# EAGLE library part LCD (library connectors)
LCD connector Connector for the LCD on glass module Farnell: 5005723 Lieven Hollevoet, 2005
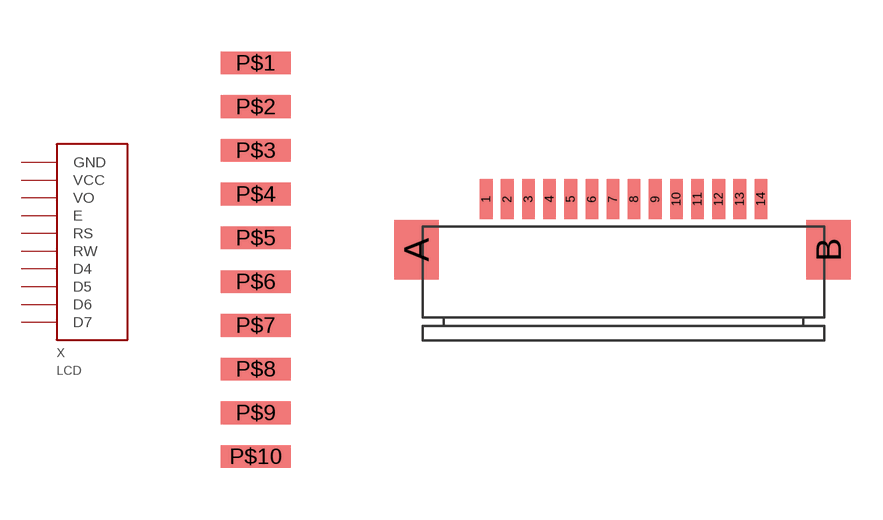
[diagram p2: symbol with the pads of LCDSMD; footprints LCDSMD, MOLEX_LCD]

Designator prefix X

## LCDA  [LCDSMD]
P$1  GND  pwr
P$2  VCC  in
P$3  VO
P$4  E
P$5  RS
P$6  RW
P$7  D4
P$8  D5
P$9  D6
P$10  D7

## LCDMOLEX  [MOLEX_LCD]
1  GND  pwr
2  VO
3  VCC  in
4  RS
5  RW
6  E
11  D4
12  D5
13  D6
14  D7

## Footprint LCDSMD (pad centres in mm)
LCD connector Temporary connector for the LCD module By Lieven Hollevoet, 2005
smd 2.032 x 0.66: P$1 0,6.35; P$2 0,5.08; P$3 0,3.81; P$4 0,2.54; P$5 0,1.27; P$6 0,0; P$7 0,-1.27; P$8 0,-2.54; P$9 0,-3.81; P$10 0,-5.08

## Footprint MOLEX_LCD (pad centres in mm)
smd 0.6 x 1.9: 1 -7,1; 2 -6,1; 3 -5,1; 4 -4,1; 5 -3,1; 6 -2,1; 7 -1,1; 8 0,1; 9 1,1; 10 2,1; 11 3,1; 12 4,1; 13 5,1; 14 6,1
smd 2.1 x 2.8: A -10.3,-1.4; B 9.2,-1.4